# EAGLE library part LTC3773 (library PowerProducts)
Triple Output Synchronous 3-Phase DC/DC Controller with Up/Down Tracking
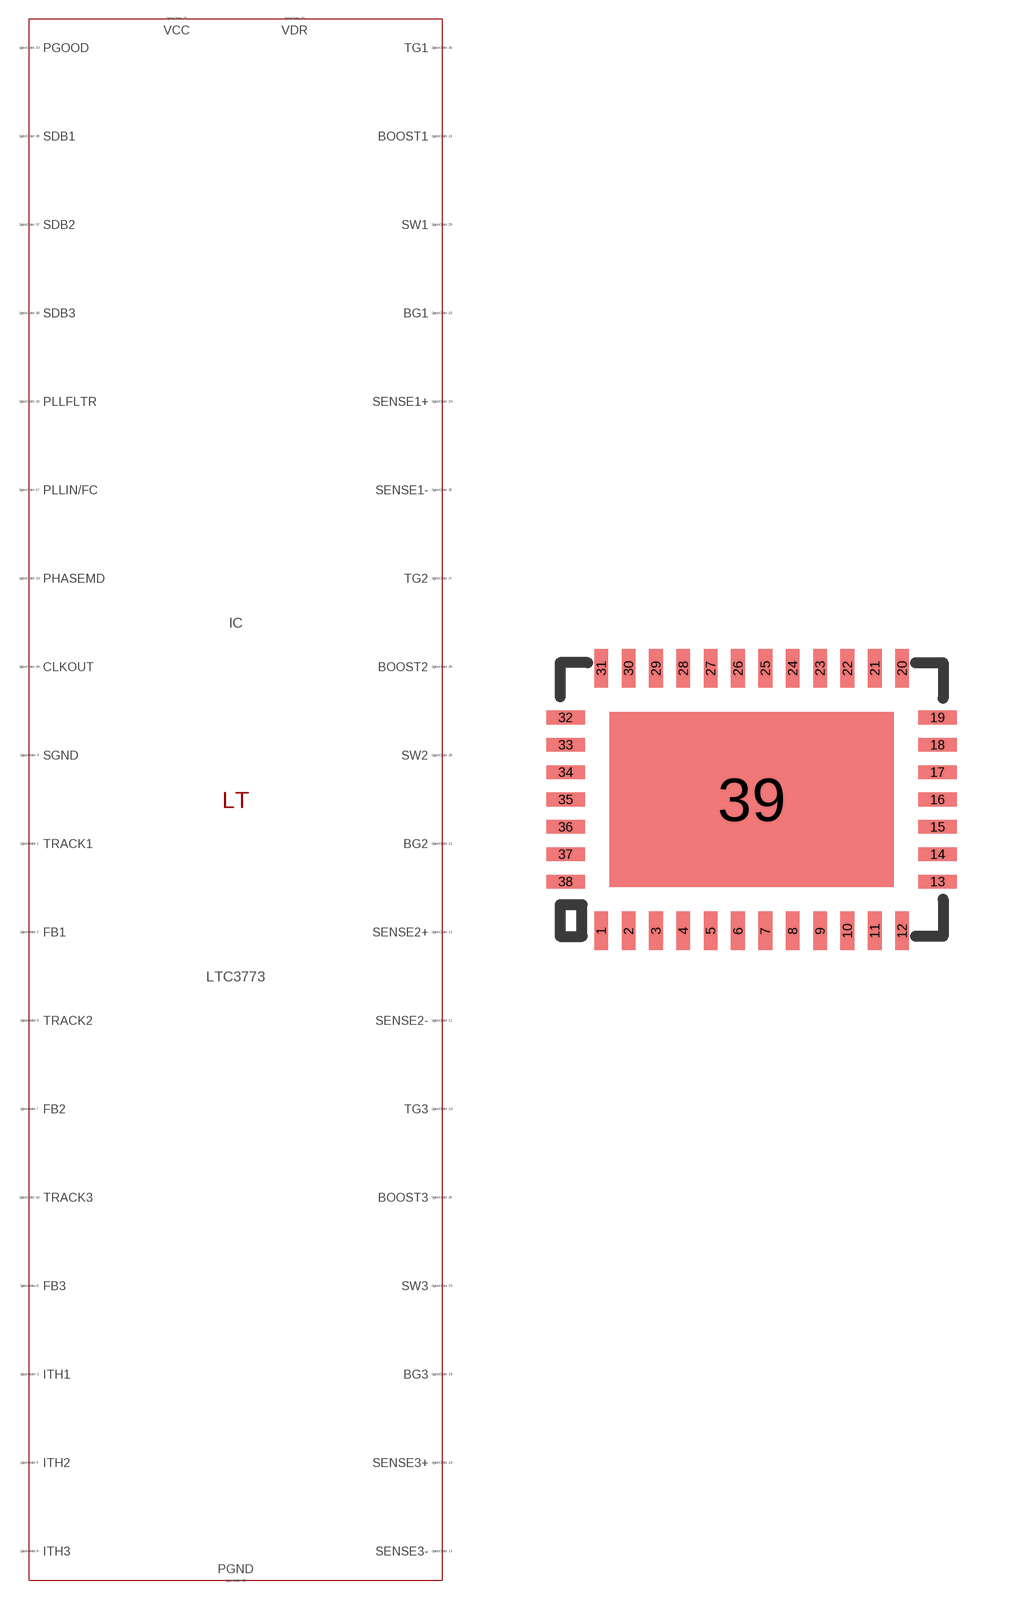
[diagram p320: symbol with the pads of QFN38(UHF); footprint QFN38(UHF)]

Designator prefix IC

## LTC3773 (SPICEMODEL: LTC3773.sub; SPICEPREFIX: X; VALUE2: LTC3773)  [QFN38(UHF)]
1  TRACK1  pas
2  FB1  pas
3  ITH1  pas
4  SGND  pas
5  ITH2  pas
6  ITH3  pas
7  FB2  pas
8  FB3  pas
9  TRACK2  pas
10  TRACK3  pas
11  SENSE2-  pas
12  SENSE2+  pas
13  SENSE3-  pas
14  SENSE3+  pas
15  VCC  pas
16  PLLFLTR  pas
17  PLLIN/FC  pas
18  CLKOUT  pas
19  BG3  pas
20  VDR  pas
21  BG2  pas
22  BG1  pas
23  SW3  pas
24  TG3  pas
25  BOOST3  pas
26  BOOST2  pas
27  TG2  pas
28  SW2  pas
29  SW1  pas
30  TG1  pas
31  BOOST1  pas
32  PGOOD  pas
33  PHASEMD  pas
34  SENSE1+  pas
35  SENSE1-  pas
36  SDB1  pas
37  SDB2  pas
38  SDB3  pas
39  PGND  pas

## Footprint QFN38(UHF) (pad centres in mm)
Package generated from: QFN38(UHF).asc (!PADS-POWERPCB-V5.0-BASIC! DESIGN DATABASE ASCII FILE 1.0) with :import-pads-powerpcb-v5.ulp Version 1.0.1 at 04.10.2012 14:11:28
smd 0.375 x 1.05: 1 -4.125,-3.6; 2 -3.375,-3.6; 3 -2.625,-3.6; 4 -1.875,-3.6; 5 -1.125,-3.6; 6 -0.375,-3.6; 7 0.375,-3.6; 8 1.125,-3.6; 9 1.875,-3.6; 10 2.625,-3.6; 11 3.375,-3.6; 12 4.125,-3.6; 20 4.125,3.6; 21 3.375,3.6; 22 2.625,3.6; 23 1.875,3.6; 24 1.125,3.6; 25 0.375,3.6; 26 -0.375,3.6; 27 -1.125,3.6; 28 -1.875,3.6; 29 -2.625,3.6; 30 -3.375,3.6; 31 -4.125,3.6
smd 1.05 x 0.375: 13 5.1,-2.25; 14 5.1,-1.5; 15 5.1,-0.75; 16 5.1,0; 17 5.1,0.75; 18 5.1,1.5; 19 5.1,2.25; 32 -5.1,2.25; 33 -5.1,1.5; 34 -5.1,0.75; 35 -5.1,0; 36 -5.1,-0.75; 37 -5.1,-1.5; 38 -5.1,-2.25
smd 7.8 x 4.8: 39 0,0